# Altium footprint library TourniquetPCB.PcbLib: 29 footprints (part 1 of 2)
Each footprint in its own frame and in the unit in brackets; x right, y up, seen from the top. Pads: shape width x height; smd on the part's side, far side on the other; paste and mask are expansions set on the pad; w line width, h text height; cw(c..) or ccw(c..) is an arc to the next point about the centre after c.
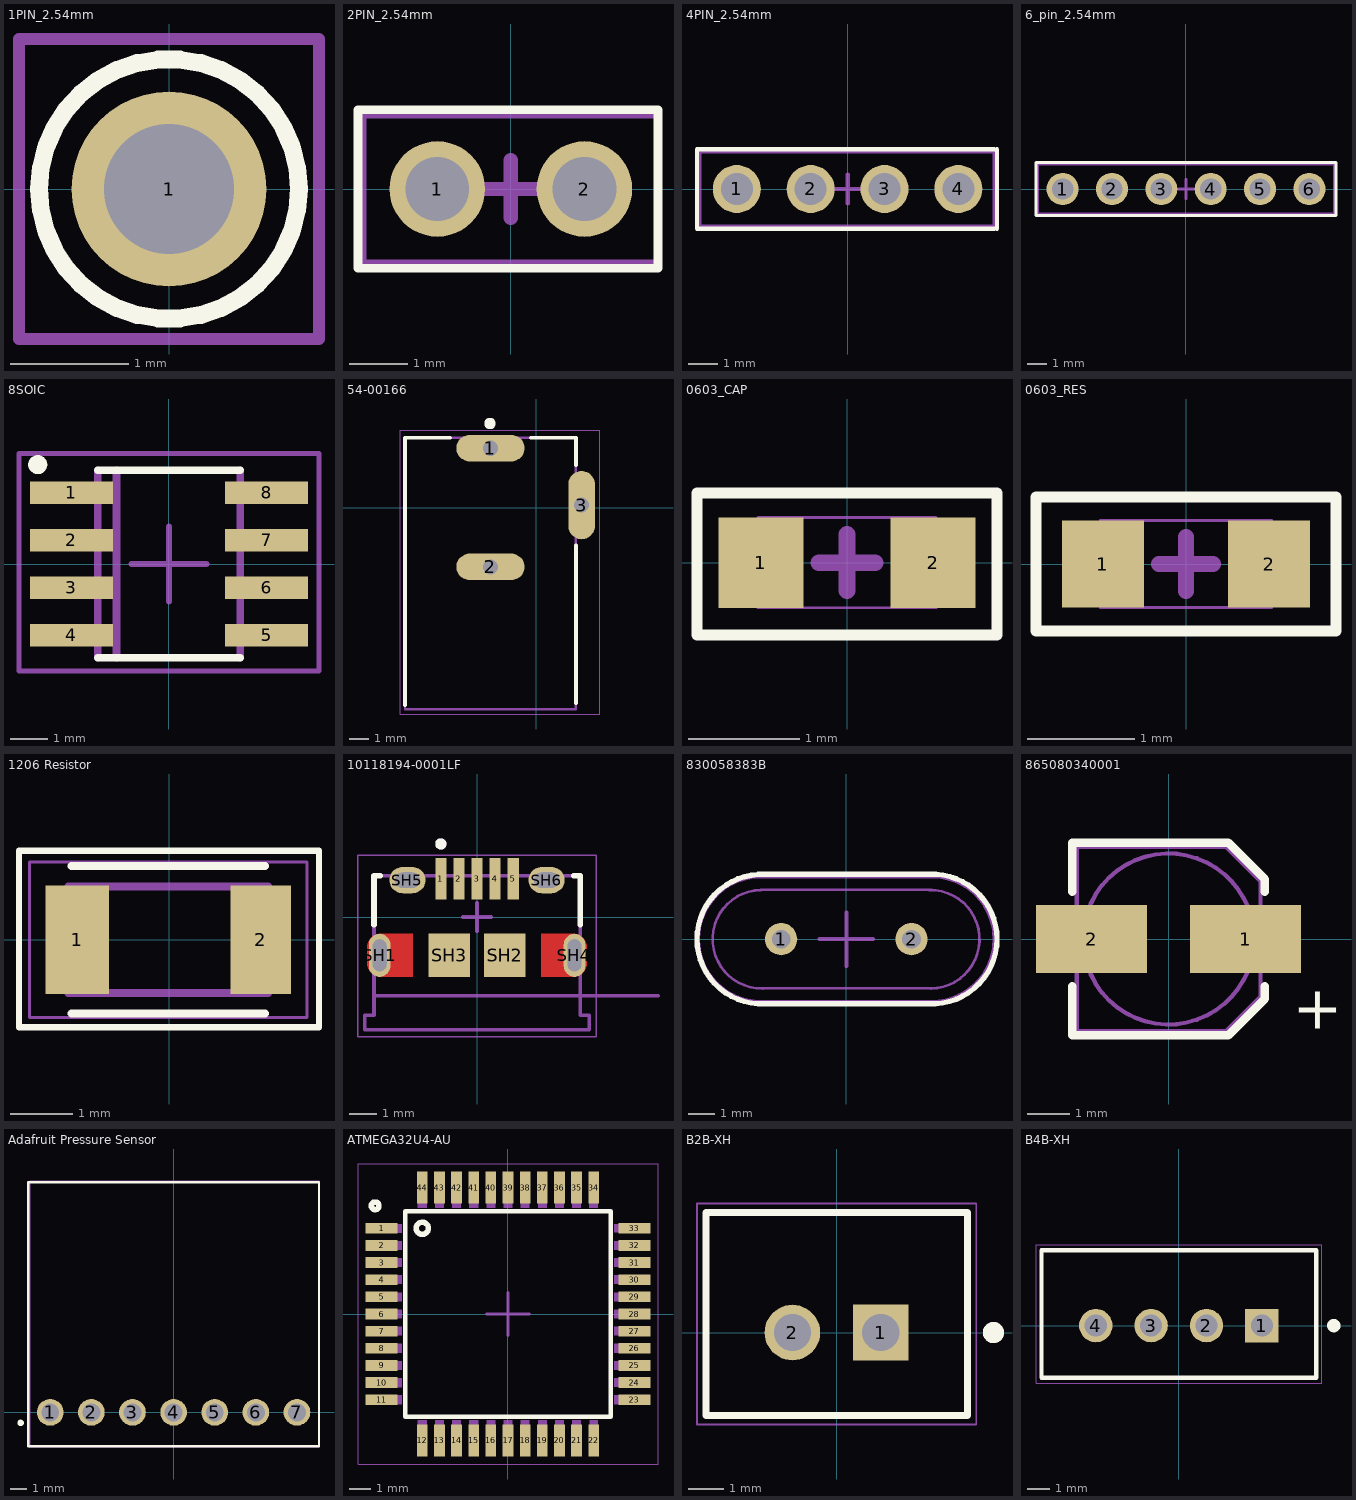
[diagram p0: the footprints below, top view; thin cyan lines are the x and y axes]

## 1PIN_2.54mm [mm]
pads (1):
  round 1.65 hole 1.1: 1(0,0)
Top Overlay:
  circle w0.15: c0,0 r1.1
Mechanical 13:
  lines w0.1: -1.27,-1.27 -1.27,1.27 1.27,1.27 1.27,-1.27 -1.27,-1.27
Mechanical 15:
  lines w0.15: -0.5,0 0,0 ; 0,0 0,0.5 0,0.25 0,0 ; 0,0 0.5,0 0,0 ; 0,0 0,-0.5 0,0

## 2PIN_2.54mm [mm]
pads (2):
  round 1.65 hole 1.1: 1(-1.27,0) 2(1.27,0)
Top Overlay:
  lines w0.15: -2.64,-1.37 -2.64,1.37 2.54,1.37 2.54,-1.37 -2.64,-1.37
Mechanical 13:
  lines w0.1: -2.54,-1.27 2.54,-1.27 2.54,1.27 -2.54,1.27 -2.54,-1.27
Mechanical 15:
  lines w0.25: -0.5,0 0,0 ; 0,0 0,0.5 0,0 ; 0,0 0.5,0 0,0 ; 0,0 0,-0.5 0,0

## 4PIN_2.54mm [mm]
pads (4):
  round 1.65 hole 1.1: 1(-3.81,0) 2(-1.27,0) 3(1.27,0) 4(3.81,0)
Top Overlay:
  lines w0.15: 5.04,-1.37 -5.18,-1.37 -5.18,1.37 5.04,1.37 ; 5.14,-1.37 5.14,1.37
Mechanical 13:
  lines w0.1: -5.08,-1.27 -5.08,1.27 5.04,1.27 5.04,-1.27 -5.08,-1.27
Mechanical 15:
  lines w0.15: -0.5,0 0,0 ; 0,0 0,0.5 0,0.25 0,0 ; 0,0 0.5,0 0,0 ; 0,0 0,-0.5 0,0

## 6_pin_2.54mm [mm]
pads (6):
  round 1.65 hole 1.1: 1(-6.35,0) 2(-3.81,0) 3(-1.27,0) 4(1.27,0) 5(3.81,0) 6(6.35,0)
Top Overlay:
  lines w0.15: -7.72,-1.37 -7.72,1.37 7.72,1.37 7.72,-1.37 -7.72,-1.37
Mechanical 13:
  lines w0.1: -7.62,-1.27 7.62,-1.27 7.62,1.27 -7.62,1.27 -7.62,-1.27
Mechanical 15:
  lines w0.15: -0.5,0 0,0 ; 0,0 0,-0.5 0,0 ; 0,0 0.5,0 0,0 ; 0,0 0,0.5 0,0

## 8SOIC [mm]
pads (8):
  rect 2.2x0.6 smd: 1(-2.6,1.905) 2(-2.6,0.635) 3(-2.6,-0.635) 4(-2.6,-1.905) 5(2.6,-1.905) 6(2.6,-0.635) 7(2.6,0.635) 8(2.6,1.905)
Top Overlay:
  circle w0.254: c-3.5,2.65 r0.127
  lines w0.2: -1.9,-2.5 1.9,-2.5 ; -1.9,2.5 1.9,2.5
Mechanical 13:
  region: 3.101,1.662 2.003,1.662 2.003,2.149 3.101,2.149
  region: 3.102,0.392 2.002,0.392 2.002,0.878 3.102,0.878
  region: 3.102,-0.88 2.001,-0.88 2.001,-0.392 3.102,-0.392
  region: 3.104,-2.15 2,-2.15 2,-1.664 3.104,-1.664
  region: -2,-2.151 -3.101,-2.151 -3.101,-1.66 -2,-1.66
  region: -2,-0.88 -3.1,-0.88 -3.1,-0.39 -2,-0.39
  region: -2.002,0.388 -3.102,0.388 -3.102,0.882 -2.002,0.882
  region: -2.001,1.659 -3.101,1.659 -3.101,2.151 -2.001,2.151
  lines w0.203: -1.9,-2.5 -1.9,2.5 ; -1.4,-2.5 -1.4,2.5 ; 1.9,-2.5 1.9,2.5
Mechanical 15:
  lines w0.127: -4,-2.85 -4,2.95 4,2.95 4,-2.85 -4,-2.85
  lines w0.15: -1,0 0,0 ; 0,0 0,-1 0,0 ; 0,0 1,0 0,0 ; 0,0 0,1 0,0
3D body "step_temp.STEP": height 1.75, standoff 0, extent -3,-2.45 3,2.45

## 54-00166 [mm] "Barrel Jack"
pads (3):
  oval 3.6x1.4 hole 0.8 square: 1(-2.4,3.125) 2(-2.4,-3.125)
  oval 1.4x3.6 hole 0.8 square: 3(2.4,0.125)
Top Overlay:
  circle w0.4: c-2.425,4.425 r0.1
  lines w0.2: -6.9,-10.4 -6.9,3.675 -4.52,3.675 ; -0.28,3.675 2.1,3.675 2.1,2.245 ; 2.1,-10.3 2.1,-1.995
Mechanical 13:
  circle w0.2: c-2.4,4.325 r0.1
  lines w0.127: -6.9,-10.625 2.1,-10.625 2.1,3.675 -6.9,3.675 -6.9,-10.625
Mechanical 15:
  lines w0.05: -7.15,-10.875 -7.15,4.075 3.35,4.075 3.35,-10.875 -7.15,-10.875
3D body "step_temp.STEP": height 11, standoff -3.6, extent -6.9,-10.625 2.6,3.675

## 0603_CAP [mil]
pads (2):
  rect 30x32 smd paste+0 mask+2: 1(-30.5,0) 2(30.5,0)
Top Overlay:
  lines w3.94: -53.15,-25.59 53.15,-25.59 53.15,24.61 -53.15,24.61 -53.15,-25.59
Mechanical 13:
  lines w1: -31.5,-16 -31.5,16 ; -31.5,-16 -31.5,16 ; -31.5,-16 -31.5,16 ; -31.5,-16 31.5,-16 ; -31.5,16 31.5,16 ; 31.5,-16 31.5,16 ; 31.5,-16 31.5,16 ; 31.5,-16 31.5,16
Mechanical 15:
  lines w5.91: -10,0 0,0 ; 0,0 0,10 0,0 ; 0,0 10,0 0,0 ; 0,0 0,-10 0,0
3D body "0603_capacitor.STEP": height 31.5, standoff 0, extent -31.5,-18.05 31.5,17.39

## 0603_RES [mil]
pads (2):
  rect 30x32 smd paste+0 mask+2: 1(-30.5,0) 2(30.5,0)
Top Overlay:
  lines w3.94: -55.12,-24.61 55.12,-24.61 55.12,24.61 -55.12,24.61 -55.12,-24.61
Mechanical 13:
  lines w1: -31.5,-16 -31.5,16 ; -31.5,-16 31.5,-16 ; -31.5,-16 -31.5,16 ; -31.5,-16 -31.5,16 ; -31.5,16 31.5,16 ; 31.5,-16 31.5,16 ; 31.5,-16 31.5,16 ; 31.5,-16 31.5,16
Mechanical 15:
  lines w5.91: -10,0 0,0 ; 0,0 0,-10 0,0 ; 0,0 10,0 0,0 ; 0,0 0,10 0,0
3D body "RC0603N_YAG.step": height 27.99, standoff 0, extent -31.5,-15.98 31.5,15.98

## 1206 Resistor [mm]
pads (2):
  rect 1.02x1.73 smd: 1(-1.467,0)
  rect 0.97x1.73 smd: 2(1.468,0)
Top Overlay:
  lines w0.1: -2.4,-1.4 2.4,-1.4 2.4,1.425 -2.4,1.425 -2.4,-1.4
  lines w0.127: -1.562,-1.18 1.538,-1.18 ; -1.562,1.18 1.538,1.18
Mechanical 13:
  lines w0.127: -1.612,-0.85 1.588,-0.85 1.588,0.85 -1.612,0.85 -1.612,-0.85
Mechanical 15:
  lines w0.05: -2.232,-1.244 2.208,-1.244 2.208,1.244 -2.232,1.244 -2.232,-1.244
3D body "step_temp.STEP": height 0.66, standoff 0, extent -1.562,-0.8 1.538,0.8

## 10118194-0001LF [mm] "USB - micro B USB 2.0 Receptacle Connector 5 Position Surface Mount, Right Angle; Through Hole"
pads (11):
  rect 0.4x1.5 smd: 1(-1.3,1.375) 2(-0.65,1.375) 3(0,1.375) 4(0.65,1.375) 5(1.3,1.375)
  oval 0.775x1.55 hole 0.5 slot 1.15 at 90 deg mask+0: SH1(-3.5,-1.375) SH4(3.5,-1.375)
  rect 1.5x1.55 smd: SH2(1,-1.375) SH3(-1,-1.375)
  oval 1.3x0.95 hole 0.55 slot 0.9 at 0 deg: SH5(-2.5,1.325) SH6(2.5,1.325)
Top Layer:
  region: 3.471,-0.601 3.497,-0.603 3.523,-0.606 3.549,-0.611 3.574,-0.617 3.6,-0.624 3.624,-0.633 3.648,-0.643 3.672,-0.654 3.695,-0.667 3.717,-0.681 3.739,-0.695 3.76,-0.711 3.78,-0.728 3.799,-0.746 3.817,-0.765 3.834,-0.785 3.85,-0.806 3.864,-0.828 3.878,-0.85 3.891,-0.873 3.902,-0.897 3.912,-0.921 3.921,-0.945 3.928,-0.971 3.934,-0.996 3.939,-1.022 3.942,-1.048 3.944,-1.074 3.945,-1.1 3.945,-1.65 3.944,-1.676 3.942,-1.702 3.939,-1.728 3.934,-1.754 3.928,-1.779 3.921,-1.805 3.912,-1.829 3.902,-1.853 3.891,-1.877 3.878,-1.9 3.864,-1.922 3.85,-1.944 3.834,-1.965 3.817,-1.985 3.799,-2.004 3.78,-2.022 3.76,-2.039 3.739,-2.055 3.717,-2.069 3.695,-2.083 3.672,-2.096 3.648,-2.107 3.624,-2.117 3.6,-2.126 3.574,-2.133 3.549,-2.139 3.523,-2.144 3.497,-2.147 3.471,-2.149 3.445,-2.15 2.3,-2.15 2.3,-0.6 3.445,-0.6
  region: -2.3,-2.15 -3.445,-2.15 -3.471,-2.149 -3.497,-2.147 -3.523,-2.144 -3.549,-2.139 -3.574,-2.133 -3.6,-2.126 -3.624,-2.117 -3.648,-2.107 -3.672,-2.096 -3.695,-2.083 -3.717,-2.069 -3.739,-2.055 -3.76,-2.039 -3.78,-2.022 -3.799,-2.004 -3.817,-1.985 -3.834,-1.965 -3.85,-1.944 -3.864,-1.922 -3.878,-1.9 -3.891,-1.877 -3.902,-1.853 -3.912,-1.829 -3.921,-1.805 -3.928,-1.779 -3.934,-1.754 -3.939,-1.728 -3.942,-1.702 -3.944,-1.676 -3.945,-1.65 -3.945,-1.1 -3.944,-1.074 -3.942,-1.048 -3.939,-1.022 -3.934,-0.996 -3.928,-0.971 -3.921,-0.945 -3.912,-0.921 -3.902,-0.897 -3.891,-0.873 -3.878,-0.85 -3.864,-0.828 -3.85,-0.806 -3.834,-0.785 -3.817,-0.765 -3.799,-0.746 -3.78,-0.728 -3.76,-0.711 -3.739,-0.695 -3.717,-0.681 -3.695,-0.667 -3.672,-0.654 -3.648,-0.643 -3.624,-0.633 -3.6,-0.624 -3.574,-0.617 -3.549,-0.611 -3.523,-0.606 -3.497,-0.603 -3.471,-0.601 -3.445,-0.6 -2.3,-0.6
Top Overlay:
  circle w0.2: c-1.3,2.625 r0.1
  lines w0.2: -3.7,-0.275 -3.7,1.475 -3.47,1.475 ; 3.47,1.475 3.7,1.475 3.7,-0.275
Top Paste:
  region: 3.471,-0.601 3.497,-0.603 3.523,-0.606 3.549,-0.611 3.574,-0.617 3.6,-0.624 3.624,-0.633 3.648,-0.643 3.672,-0.654 3.695,-0.667 3.717,-0.681 3.739,-0.695 3.76,-0.711 3.78,-0.728 3.799,-0.746 3.817,-0.765 3.834,-0.785 3.85,-0.806 3.864,-0.828 3.878,-0.85 3.891,-0.873 3.902,-0.897 3.912,-0.921 3.921,-0.945 3.928,-0.971 3.934,-0.996 3.939,-1.022 3.942,-1.048 3.944,-1.074 3.945,-1.1 3.945,-1.65 3.944,-1.676 3.942,-1.702 3.939,-1.728 3.934,-1.754 3.928,-1.779 3.921,-1.805 3.912,-1.829 3.902,-1.853 3.891,-1.877 3.878,-1.9 3.864,-1.922 3.85,-1.944 3.834,-1.965 3.817,-1.985 3.799,-2.004 3.78,-2.022 3.76,-2.039 3.739,-2.055 3.717,-2.069 3.695,-2.083 3.672,-2.096 3.648,-2.107 3.624,-2.117 3.6,-2.126 3.574,-2.133 3.549,-2.139 3.523,-2.144 3.497,-2.147 3.471,-2.149 3.445,-2.15 2.3,-2.15 2.3,-0.6 3.445,-0.6
  region: -2.3,-2.15 -3.445,-2.15 -3.471,-2.149 -3.497,-2.147 -3.523,-2.144 -3.549,-2.139 -3.574,-2.133 -3.6,-2.126 -3.624,-2.117 -3.648,-2.107 -3.672,-2.096 -3.695,-2.083 -3.717,-2.069 -3.739,-2.055 -3.76,-2.039 -3.78,-2.022 -3.799,-2.004 -3.817,-1.985 -3.834,-1.965 -3.85,-1.944 -3.864,-1.922 -3.878,-1.9 -3.891,-1.877 -3.902,-1.853 -3.912,-1.829 -3.921,-1.805 -3.928,-1.779 -3.934,-1.754 -3.939,-1.728 -3.942,-1.702 -3.944,-1.676 -3.945,-1.65 -3.945,-1.1 -3.944,-1.074 -3.942,-1.048 -3.939,-1.022 -3.934,-0.996 -3.928,-0.971 -3.921,-0.945 -3.912,-0.921 -3.902,-0.897 -3.891,-0.873 -3.878,-0.85 -3.864,-0.828 -3.85,-0.806 -3.834,-0.785 -3.817,-0.765 -3.799,-0.746 -3.78,-0.728 -3.76,-0.711 -3.739,-0.695 -3.717,-0.681 -3.695,-0.667 -3.672,-0.654 -3.648,-0.643 -3.624,-0.633 -3.6,-0.624 -3.574,-0.617 -3.549,-0.611 -3.523,-0.606 -3.497,-0.603 -3.471,-0.601 -3.445,-0.6 -2.3,-0.6
Top Solder:
  region: 3.476,-0.501 3.508,-0.503 3.539,-0.507 3.57,-0.513 3.6,-0.52 3.63,-0.529 3.66,-0.54 3.689,-0.552 3.717,-0.565 3.745,-0.58 3.772,-0.597 3.798,-0.615 3.823,-0.634 3.846,-0.654 3.869,-0.676 3.891,-0.699 3.911,-0.722 3.93,-0.747 3.948,-0.773 3.965,-0.8 3.98,-0.828 3.993,-0.856 4.005,-0.885 4.016,-0.915 4.025,-0.945 4.032,-0.975 4.038,-1.006 4.042,-1.037 4.044,-1.069 4.045,-1.1 4.045,-1.65 4.044,-1.681 4.042,-1.713 4.038,-1.744 4.032,-1.775 4.025,-1.805 4.016,-1.835 4.005,-1.865 3.993,-1.894 3.98,-1.922 3.965,-1.95 3.948,-1.977 3.93,-2.003 3.911,-2.028 3.891,-2.051 3.869,-2.074 3.846,-2.096 3.823,-2.116 3.798,-2.135 3.772,-2.153 3.745,-2.17 3.717,-2.185 3.689,-2.198 3.66,-2.21 3.63,-2.221 3.6,-2.23 3.57,-2.237 3.539,-2.243 3.508,-2.247 3.476,-2.249 3.445,-2.25 2.2,-2.25 2.2,-0.5 3.445,-0.5
  region: -2.2,-2.25 -3.445,-2.25 -3.476,-2.249 -3.508,-2.247 -3.539,-2.243 -3.57,-2.237 -3.6,-2.23 -3.63,-2.221 -3.66,-2.21 -3.689,-2.198 -3.717,-2.185 -3.745,-2.17 -3.772,-2.153 -3.798,-2.135 -3.823,-2.116 -3.846,-2.096 -3.869,-2.074 -3.891,-2.051 -3.911,-2.028 -3.93,-2.003 -3.948,-1.977 -3.965,-1.95 -3.98,-1.922 -3.993,-1.894 -4.005,-1.865 -4.016,-1.835 -4.025,-1.805 -4.032,-1.775 -4.038,-1.744 -4.042,-1.713 -4.044,-1.681 -4.045,-1.65 -4.045,-1.1 -4.044,-1.069 -4.042,-1.037 -4.038,-1.006 -4.032,-0.975 -4.025,-0.945 -4.016,-0.915 -4.005,-0.885 -3.993,-0.856 -3.98,-0.828 -3.965,-0.8 -3.948,-0.773 -3.93,-0.747 -3.911,-0.722 -3.891,-0.699 -3.869,-0.676 -3.846,-0.654 -3.823,-0.634 -3.798,-0.615 -3.772,-0.597 -3.745,-0.58 -3.717,-0.565 -3.689,-0.552 -3.66,-0.54 -3.63,-0.529 -3.6,-0.52 -3.57,-0.513 -3.539,-0.507 -3.508,-0.503 -3.476,-0.501 -3.445,-0.5 -2.2,-0.5
Bottom Solder:
  drawing of 2 lines, arcs and shapes, not listed
Mechanical 13:
  circle w0.2: c-1.3,2.625 r0.1
  lines w0.127: 6.5,-2.825 -3.7,-2.825 ; -3.7,-2.825 -3.7,1.475 3.7,1.475 3.7,-3.525 4.025,-3.525 4.025,-4.055 -4.025,-4.055 -4.025,-3.525 -3.7,-3.525 -3.7,-2.825
  text "PCB EDGE" at 4.25,-2.625 h0.81
Mechanical 15:
  lines w0.05: -4.275,-4.305 4.275,-4.305 4.275,2.225 -4.275,2.225 -4.275,-4.305
  lines w0.15: -0.5,0 0,0 ; 0,0 0,0.5 0,0 ; 0,0 0.5,0 0,0 ; 0,0 0,-0.5 0,0
3D body "step_temp.STEP": height 2.67, standoff -0.6, extent -4.025,-4.055 4.025,1.475

## 830058383B [mm]
pads (2):
  round 1.208 hole 0.7: 1(-2.44,0) 2(2.44,0)
Top Overlay:
  lines w0.2: -3.3,-2.425 3.3,-2.425 ; -3.3,2.425 3.3,2.425 ; -3.292,2.421 ccw(c-3.165,0) -3.038,-2.421 ; 3.083,2.43 cw(c3.21,0.005) 3.337,-2.42
Mechanical 13:
  lines w0.1: -3.2,-1.845 3.2,-1.845 ; -3.2,1.845 3.2,1.845 ; -3.192,1.84 ccw(c-3.16,-0.005) -3.128,-1.85 ; 3.108,1.84 cw(c3.14,-0.005) 3.172,-1.85 ; -3.2,-2.325 cw(c-3.2,0) -3.2,2.325 3.2,2.325 cw(c3.2,0) 3.2,-2.325 -3.2,-2.325
Mechanical 15:
  lines w0.15: -1,0 0,0 ; 0,0 0,1 0,0 ; 0,0 1,0 0,0 ; 0,0 0,-1 0,0
3D body "830058383B.stp": height 4.11, standoff -12.69, extent -5.525,-2.35 5.525,2.35

## 865080340001 [mm] "10 µF 16 V Aluminum Electrolytic Capacitors Radial, Can - SMD 2000 Hrs @ 105°C"
pads (2):
  rect 2.6x1.6 smd: 1(1.8,0) 2(-1.8,0)
Top Overlay:
  lines w0.2: -2.25,-1.1 -2.25,-2.25 1.4,-2.25 2.25,-1.4 2.25,-1.1 ; -2.25,1.1 -2.25,2.25 1.4,2.25 2.25,1.4 2.25,1.1
  text "+" at 2.9,-2.1 h1.02
Mechanical 13:
  circle w0.1: c0,0 r2
  lines w0.1: -2.15,-2.15 -2.15,2.15 1.35,2.15 2.15,1.35 2.15,-1.35 1.35,-2.15 -2.15,-2.15
  text "+" at 2.9,-2.1 h1.02
3D body "865080340001.stp": height 5.35, standoff -0.15, extent -2.451,-2.253 2.549,2.047

## Adafruit Pressure Sensor [mm]
pads (7):
  round 1.65 hole 1.1: 1(-7.62,0) 2(-5.08,0) 3(-2.54,0) 4(0,0) 5(2.54,0) 6(5.08,0) 7(7.62,0)
Top Overlay:
  circle w0.2: c-9.45,-0.65 r0.1
  lines w0.15: -8.99,-2.1 -8.99,14.225 8.98,14.225 8.98,-2.1 -8.99,-2.1
Mechanical 13:
  lines w0.1: -8.89,-2.125 8.98,-2.125 8.98,14.275 -8.89,14.275 -8.89,-2.125
3D body "3965 MPRLS Pressure Sensor.step": height 7.37, standoff 0, extent -8.965,-2.335 8.815,14.175

## ATMEGA32U4-AU [mm]
pads (44):
  rect 1.5x0.5 smd: 1(-5.9,4) 2(-5.9,3.2) 3(-5.9,2.4) 4(-5.9,1.6) 5(-5.9,0.8) 6(-5.9,0) 7(-5.9,-0.8) 8(-5.9,-1.6) 9(-5.9,-2.4) 10(-5.9,-3.2) 11(-5.9,-4) 23(5.9,-4) 24(5.9,-3.2) 25(5.9,-2.4) 26(5.9,-1.6) 27(5.9,-0.8) 28(5.9,0) 29(5.9,0.8) 30(5.9,1.6) 31(5.9,2.4) 32(5.9,3.2) 33(5.9,4)
  rect 0.5x1.5 smd: 12(-4,-5.9) 13(-3.2,-5.9) 14(-2.4,-5.9) 15(-1.6,-5.9) 16(-0.8,-5.9) 17(0,-5.9) 18(0.8,-5.9) 19(1.6,-5.9) 20(2.4,-5.9) 21(3.2,-5.9) 22(4,-5.9) 34(4,5.9) 35(3.2,5.9) 36(2.4,5.9) 37(1.6,5.9) 38(0.8,5.9) 39(0,5.9) 40(-0.8,5.9) 41(-1.6,5.9) 42(-2.4,5.9) 43(-3.2,5.9) 44(-4,5.9)
Top Overlay:
  circle w0.254: c-6.2,5.05 r0.178
  circle w0.254: c-4,4 r0.283
  lines w0.2: -4.8,-4.8 -4.8,4.8 4.8,4.8 4.8,-4.8 -4.8,-4.8
Mechanical 13:
  drawing of 44 lines, arcs and shapes, not listed
Mechanical 15:
  lines w0.05: -7,-7 -7,7 7,7 7,-7 -7,-7
  lines w0.15: 0,-1 0,0 ; 0,0 -1,0 0,0 ; 0,0 0,1 0,0 ; 0,0 1,0 0,0
3D body "step_temp.STEP": height 1.23, standoff 0.03, extent -6,-6 6,6

## B2B-XH [mm]
pads (2):
  rect 1.575x1.575 / inner round 1.575 / far side rect 1.575x1.575 hole 1.05: 1(1.25,0)
  round 1.575 hole 1.05: 2(-1.25,0)
Top Overlay:
  circle w0.4: c4.44,0 r0.1
  lines w0.2: -3.7,-2.35 -3.7,3.4 3.7,3.4 3.7,-2.35 -3.7,-2.35
Mechanical 13:
  circle w0.2: c4.44,0 r0.1
  lines w0.127: -3.7,-2.35 -3.7,3.4 3.7,3.4 3.7,-2.35 -3.7,-2.35
Mechanical 15:
  lines w0.05: -3.95,-2.6 3.95,-2.6 3.95,3.65 -3.95,3.65 -3.95,-2.6
3D body "B2B-XH-A.STEP": height 7.01, standoff -3.39, extent -3.7,-2.4 3.7,3.35

## B4B-XH [mm]
pads (4):
  rect 1.508x1.508 / inner round 1.508 / far side rect 1.508x1.508 hole 1: 1(3.75,0)
  round 1.508 hole 1: 2(1.25,0) 3(-1.25,0) 4(-3.75,0)
Top Overlay:
  circle w0.4: c7,0 r0.1
  lines w0.2: -6.2,-2.35 -6.2,3.4 6.2,3.4 6.2,-2.35 -6.2,-2.35
Mechanical 13:
  circle w0.2: c7,0 r0.1
  lines w0.127: -6.2,-2.35 -6.2,3.4 6.2,3.4 6.2,-2.35 -6.2,-2.35
Mechanical 15:
  lines w0.05: -6.45,-2.6 -6.45,3.65 6.45,3.65 6.45,-2.6 -6.45,-2.6
3D body "step_temp.STEP": height 7, standoff -3.4, extent -6.2,-2.35 6.2,3.4